# Altium schematic symbol library CASR25-NP.SchLib: 2 symbols
Pins are listed as number, name and electrical type; pins without a type are passive.

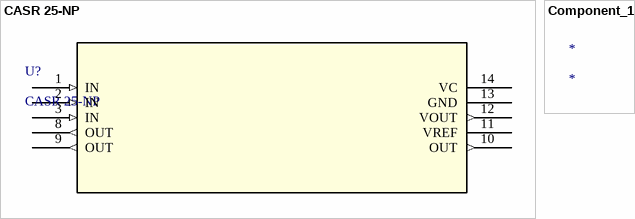
[diagram p0: symbols CASR 25-NP to Component_1]

## CASR 25-NP
designator U?
No Description Available; Mfr_Name: LEM; Copyright: Copyright (C) 2022 Ultra Librarian. All rights reserved.; Manufacturer_Part_Number: CASR 25-NP; Digi-Key_Part_Number_1: 398-CASR25-NP-ND; RefDes: RefDes; Type: DEV
footprint CASR_LEM
pins: 1 IN (in), 2 IN (in), 3 IN (in), 8 OUT (out), 9 OUT (out), 10 OUT (out), 11 VREF (power), 12 VOUT (out), 13 GND, 14 VC (power)

## Component_1
designator *